# Altium footprint library Accelerometer.PcbLib: 4 footprints
Each footprint in its own frame and in the unit in brackets; x right, y up, seen from the top. Pads: shape width x height; smd on the part's side, far side on the other; paste and mask are expansions set on the pad; w line width, h text height; cw(c..) or ccw(c..) is an arc to the next point about the centre after c.
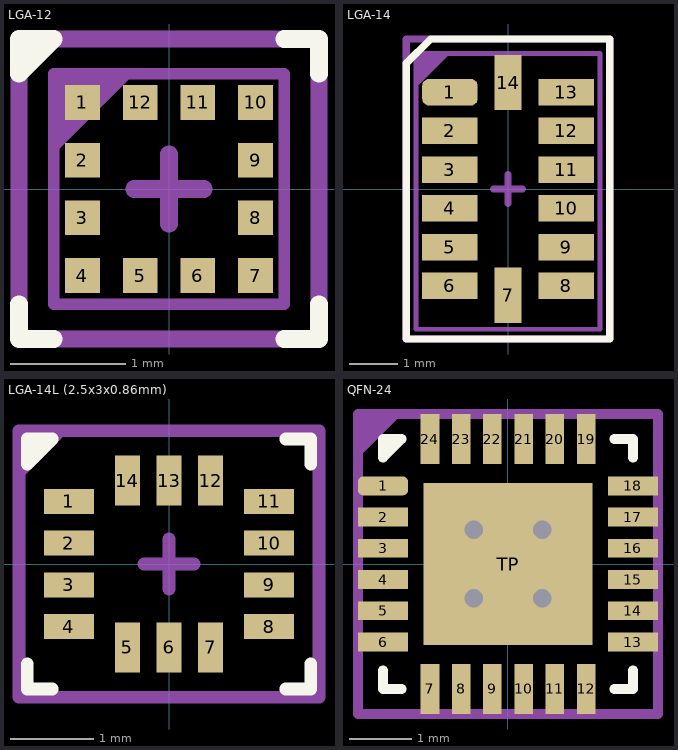
[diagram p0: the footprints below, top view; thin cyan lines are the x and y axes]

## LGA-12 [mm]
pads (12):
  rect 0.3x0.3 smd: 1(-0.75,0.75) 2(-0.75,0.25) 3(-0.75,-0.25) 4(-0.75,-0.75) 5(-0.25,-0.75) 6(0.25,-0.75) 7(0.75,-0.75) 8(0.75,-0.25) 9(0.75,0.25) 10(0.75,0.75) 11(0.25,0.75) 12(-0.25,0.75)
Top Overlay:
  region: -1.3,1.3 -1.3,1 -1,1.3
  lines w0.153: -1.3,-1 -1.3,-1.3 -1,-1.3 ; 1,-1.3 1.3,-1.3 1.3,-1 ; 1,1.3 1.3,1.3 1.3,1 ; -1.3,1 -1.3,1.3 -1,1.3 -1.3,1
Top Assembly:
  region: -1,1 -0.3,1 -1,0.3
  lines w0.1: -1,-1 -1,1 1,1 1,-1 -1,-1
  text "'.Designator'" at -4.532,-0.333 h0.8
Top Courtyard (Mech6):
  lines w0.15: -1.3,-1.3 -1.3,1.3 1.3,1.3 1.3,-1.3 -1.3,-1.3
  lines w0.153: -0.3,0 0.3,0 ; 0,-0.3 0,0.3
3D body "LIS2DW12TR.STEP": height 0.7, standoff 0, extent -1,-1 1,1

## LGA-14 [mm]
pads (14):
  rrect50% 1.145x0.55 smd: 1(-1.2,2)
  rect 1.145x0.55 smd: 2(-1.2,1.2) 3(-1.2,0.4) 4(-1.2,-0.4) 5(-1.2,-1.2) 6(-1.2,-2) 8(1.2,-2) 9(1.2,-1.2) 10(1.2,-0.4) 11(1.2,0.4) 12(1.2,1.2) 13(1.2,2)
  rect 0.55x1.145 smd: 7(0,-2.2) 14(0,2.2)
Top Overlay:
  lines w0.153: -2.1,-3.1 2.1,-3.1 2.1,3.1 -1.6,3.1 -2.1,2.6 -2.1,-3.1
Top Assembly:
  region: -1.9,2.8 -1.2,2.8 -1.9,2.1
  lines w0.1: -1.9,-2.9 1.9,-2.9 1.9,2.8 -1.9,2.8 -1.9,-2.9
  text "'.Designator'" at -0.333,4.532 h0.8
Top Courtyard (Mech6):
  lines w0.153: -0.3,0 0.3,0 ; 0,-0.3 0,0.3 ; -2.1,-3.1 2.1,-3.1 2.1,3.1 -2.1,3.1 -2.1,-3.1
3D body "User Library-ADXL345.STEP": height 1, standoff 0, extent -1.5,-2.5 1.5,2.5

## LGA-14L (2.5x3x0.86mm) [mm]
pads (14):
  rect 0.6x0.3 smd: 1(-1.2,0.75) 2(-1.2,0.25) 3(-1.2,-0.25) 4(-1.2,-0.75) 8(1.2,-0.75) 9(1.2,-0.25) 10(1.2,0.25) 11(1.2,0.75)
  rect 0.3x0.6 smd: 5(-0.5,-1) 6(0,-1) 7(0.5,-1) 12(0.5,1) 13(0,1) 14(-0.5,1)
Top Overlay:
  region: -1.7,1.5 -1.7,1.2 -1.4,1.5
  lines w0.153: -1.7,-1.2 -1.7,-1.5 -1.4,-1.5 ; 1.4,-1.5 1.7,-1.5 1.7,-1.2 ; 1.4,1.5 1.7,1.5 1.7,1.2 ; -1.7,1.2 -1.7,1.5 -1.4,1.5 -1.7,1.2
Top Assembly:
  region: -1.8,1.6 -1.8,1 -1.2,1.6
  lines w0.1: -1.8,-1.6 -1.8,1.6 1.8,1.6 1.8,-1.6 -1.8,-1.6
  text "'.Designator'" at -4.532,-0.333 h0.8
Top Courtyard (Mech6):
  lines w0.153: -0.3,0 0.3,0 ; 0,-0.3 0,0.3 ; -1.8,-1.6 -1.8,1.6 1.8,1.6 1.8,-1.6 -1.8,-1.6
3D body "LGA-14L_2P5X3X0P86_STM.step": height 0.87, standoff 0, extent -1.549,-1.295 1.549,1.295

## QFN-24 [mm]
pads (25):
  rrect50% 0.8x0.3 smd mask+0.05: 1(-2,1.25)
  rect 0.8x0.3 smd mask+0.05: 2(-2,0.75) 3(-2,0.25) 4(-2,-0.25) 5(-2,-0.75) 6(-2,-1.25) 13(2,-1.25) 14(2,-0.75) 15(2,-0.25) 16(2,0.25) 17(2,0.75) 18(2,1.25)
  rect 0.3x0.8 smd mask+0.05: 7(-1.25,-2) 8(-0.75,-2) 9(-0.25,-2) 10(0.25,-2) 11(0.75,-2) 12(1.25,-2) 19(1.25,2) 20(0.75,2) 21(0.25,2) 22(-0.25,2) 23(-0.75,2) 24(-1.25,2)
  rect 2.7x2.6 smd mask+0.05: TP(0,0)
via 0.55,0.55 diameter 0.65 hole 0.3
via -0.55,-0.55 diameter 0.65 hole 0.3
via -0.55,0.55 diameter 0.65 hole 0.3
via 0.55,-0.55 diameter 0.65 hole 0.3
Top Overlay:
  region: -2,2 -2,1.7 -1.7,2
  lines w0.153: -2,-1.7 -2,-2 -1.7,-2 ; 1.7,-2 2,-2 2,-1.7 ; 1.7,2 2,2 2,1.7 ; -2,1.7 -2,2 -1.7,2 -2,1.7
Top Assembly:
  region: -2.4,2.4 -1.7,2.4 -2.4,1.7
  lines w0.1: -2.4,-2.4 2.4,-2.4 2.4,2.4 -2.4,2.4 -2.4,-2.4
  text "'.Designator'" at -4.532,-0.333 h0.8
Top Courtyard (Mech6):
  lines w0.153: -0.3,0 0.3,0 ; 0,-0.3 0,0.3 ; -2.4,-2.4 -2.4,2.4 2.4,2.4 2.4,-2.4 -2.4,-2.4
3D body "User Library-mpu-6050_qfn-24-1.STEP": height 0.88, standoff -0.02, extent -2.02,-2.02 2.02,2.02